# Altium schematic symbol library switch.SchLib: 1 symbol
Pins are listed as number, name and electrical type; pins without a type are passive.

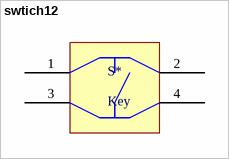
[diagram p0: symbol swtich12]

## swtich12
designator S*, comment Key
Key 12mm * 12mm
footprint SWITCH12*12
pins: 1, 2, 3, 4